# Altium schematic symbol library device.SchLib: 38 symbols
Pins are listed as number, name and electrical type; pins without a type are passive.

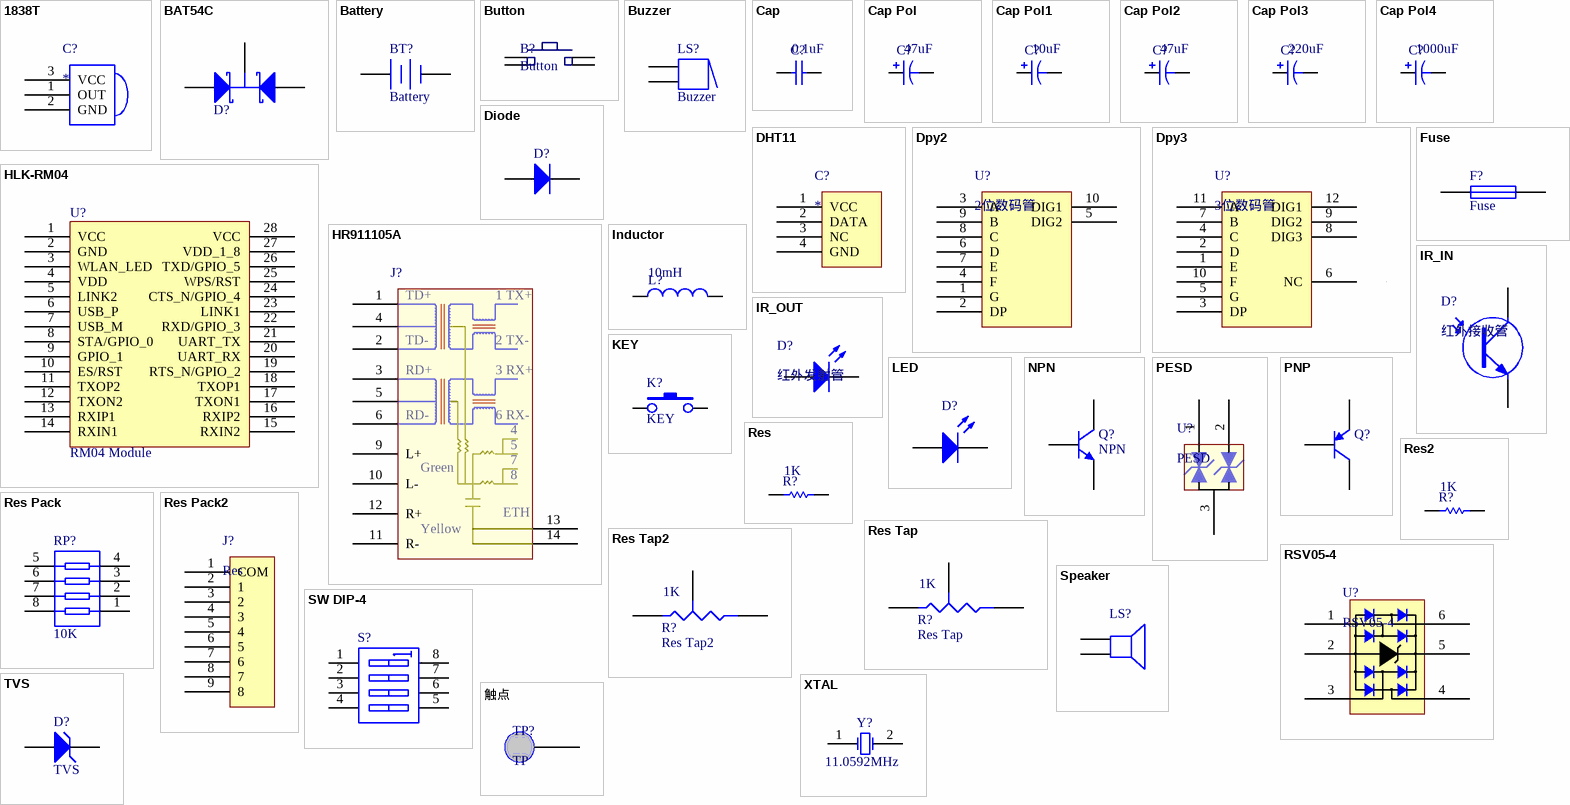
[diagram p0: symbols 1838T to 触点]

## 1838T
designator C?
footprint XH254-3
footprint TSOP1838
pins: 1 OUT, 2 GND, 3 VCC

## BAT54C
designator D?
Schottky Barrier Double Diode; Published: 17-Sep-2003; LatestRevisionDate: 12-Dec-2006; LatestRevisionNote: IPC-7351 Footprint Added.; DatasheetVersion: 4-Mar-2002; PackageVersion: May-1999; PackageReference: SOT23; Publisher: Altium Limited; PackageDescription: 3-Pin SOT-23 Package 0.95 mm Pitch, 2.3 mm Lead Span; ComponentLink1Description: Manufacturer Link; ComponentLink1URL: http://www.semiconductors.philips.com/; ComponentLink2Description: Datasheet; ComponentLink2URL: http://www.semiconductors.philips.com/acrobat/datasheets/BAT54_SERIES_4.pdf
simulation model BAT54C (SUBCKT)
signal-integrity model BAT54C
footprint SOT23-3M (SOT23, 3-Leads, Body 2.9x1.3mm, Pitch 0.95mm, Lead Span 2.5mm, IPC Low Density)
pins: 1 A1, 2 A2, 3 K

## Battery
designator BT?
Multicell Battery; Published: 24-Mar-1999; LatestRevisionDate: 17-Jul-2002; LatestRevisionNote: Re-released for DXP Platform.; PackageReference: BAT-2; Publisher: Altium Limited; PackageDescription: Battery; 2 Leads
footprint CR1220
pins: 1 +, 2 -

## Button
designator B?
footprint AN66
footprint AN1212
pins: 1, 2, 3, 4

## Buzzer
designator LS?
Magnetic Transducer Buzzer; Published: 24-Mar-1999; LatestRevisionDate: 17-Dec-2003; LatestRevisionNote: Schematic revised, PCB Footprint replaced.; DatasheetVersion: 17-Dec-2003; PackageReference: ABSM-1574; Publisher: Altium Limited; PackageDescription: Magnetic Transducer Buzzer; ComponentLink1Description: Manufacturer Link; ComponentLink1URL: http://www.megastar.com/linecard/buzzmode/index.php
footprint BELL
pins: 1, 2
1 alternate drawing of the same symbol

## Cap
designator C?, comment 0.1uF
Capacitor; Published: 8-Jun-2000; LatestRevisionDate: 17-Jul-2002; LatestRevisionNote: Re-released for DXP Platform.; PackageReference: RAD-0.3; Publisher: Altium Limited; PackageDescription: Radial Cap, Thru-Hole; 2 Leads; 0.3 in Pin Spacing; Value: 0.1uF
footprint CAPC2012M (Chip Capacitor, Body 2.0x1.3mm, IPC Low Density)
pins: 1, 2

## Cap Pol
designator C?, comment 47uF
Polarized Capacitor; Published: 8-Jun-2000; LatestRevisionDate: 17-Jul-2002; LatestRevisionNote: Re-released for DXP Platform.; Publisher: Altium Limited; PackageDescription: Polarized Capacitor; 2 Leads; Value: 47uF
footprint CAPC3216M (Chip Capacitor, Body 3.2x1.6mm, IPC Low Density)
pins: 1, 2
1 alternate drawing of the same symbol

## Cap Pol1
designator C?, comment 10uF
Polarized Capacitor (10uf); Published: 8-Jun-2000; LatestRevisionDate: 17-Jul-2002; LatestRevisionNote: Re-released for DXP Platform.; Publisher: Altium Limited; PackageDescription: Polarized Capacitor; 2 Leads; Value: 10uF
footprint CAPPR1.5-4x7 (Capacitor, Electrolytic, Radial; Body 4 x 7 mm (Dia.xH typ); Pin Spacing 1.5 mm (typ))
pins: 1, 2
1 alternate drawing of the same symbol

## Cap Pol2
designator C?, comment 47uF
Polarized Capacitor (22uf-47uf); Published: 8-Jun-2000; LatestRevisionDate: 17-Jul-2002; LatestRevisionNote: Re-released for DXP Platform.; Publisher: Altium Limited; PackageDescription: Polarized Capacitor; 2 Leads; Value: 47uF
footprint CAPPR2-5x11.5 (Capacitor, Electrolytic, Radial; Body 5 x 11.5 mm (Dia.xH typ); Pin Spacing 2 mm (typ))
pins: 1, 2
1 alternate drawing of the same symbol

## Cap Pol3
designator C?, comment 220uF
Polarized Capacitor (220uf); Published: 8-Jun-2000; LatestRevisionDate: 17-Jul-2002; LatestRevisionNote: Re-released for DXP Platform.; Publisher: Altium Limited; PackageDescription: Polarized Capacitor; 2 Leads; Value: 220uF
footprint CAPPR2.5-6.3x11.5 (Capacitor, Electrolytic, Radial; Body 6.3 x 11.5 mm (Dia.xH typ); Pin Spacing 2.5 mm (typ))
footprint CAP8.4x10
footprint CAP10.4x10.4 (CAP)
pins: 1, 2
1 alternate drawing of the same symbol

## Cap Pol4
designator C?, comment 1000uF
Polarized Capacitor (1000uf); Published: 8-Jun-2000; LatestRevisionDate: 17-Jul-2002; LatestRevisionNote: Re-released for DXP Platform.; Publisher: Altium Limited; PackageDescription: Polarized Capacitor; 2 Leads; Value: 1000uF
footprint CAPPR5-10x12.5 (Capacitor, Electrolytic, Radial; Body 10 x 12.5 mm (Dia.xH typ); Pin Spacing 5 mm (typ))
pins: 1, 2
1 alternate drawing of the same symbol

## DHT11
designator C?
footprint XH254-4
pins: 1 VCC, 2 DATA, 3 NC, 4 GND

## Diode
designator D?, comment 1N4007  (value not drawn)
Default Diode; Published: 8-Jun-2000; LatestRevisionDate: 17-Jul-2002; LatestRevisionNote: Re-released for DXP Platform.; PackageVersion: Sep-1996; PackageReference: SMC; Publisher: Altium Limited; PackageDescription: DO-214-AB/SMC; 2 C-Bend Leads; Body 7.9 x 5.9 mm, inc. leads (LxW); Code_JEDEC: DO-214-AB; Value: 1N4007
footprint DSO-C2/X1.8 (DO-214-AC/SMA; 2 C-Bend Leads; Body 5 x 2.7 mm, inc. leads (LxW))
footprint SOD123 (SOD-123; 2 Leads; Body 2.7 x 1.6 mm, (LxW))
pins: 1 A, 2 K

## Dpy2
designator U?, comment 2位数码管
footprint DPY0.36-2 (0.36寸2位数码管)
pins: 1 G, 2 DP, 3 A, 4 F, 5 DIG2, 6 D, 7 E, 8 C, 9 B, 10 DIG1

## Dpy3
designator U?, comment 3位数码管
footprint DPY0.56-3
pins: 1 E, 2 D, 3 DP, 4 C, 5 G, 6 NC, 7 B, 8 DIG3, 9 DIG2, 10 F, 11 A, 12 DIG1

## Fuse
designator F?
Published: 8-Jun-2000; LatestRevisionDate: 17-Jul-2002; LatestRevisionNote: Re-released for DXP Platform.; PackageReference: PIN-W2/E2.8; Publisher: Altium Limited; PackageDescription: Thru-Hole; 2 Leads
footprint RESC4532M (Chip Resistor, Body 4.5x3.2mm, IPC Low Density)
footprint RESC2012M (Chip Resistor, Body 2.0x1.3mm, IPC Low Density)
footprint SR075
pins: 1, 2

## HLK-RM04
designator U?, comment RM04 Module
footprint RM04
pins: 1 VCC, 2 GND, 3 WLAN_LED, 4 VDD, 5 LINK2, 6 USB_P, 7 USB_M, 8 STA/GPIO_0, 9 GPIO_1, 10 ES/RST, 11 TXOP2, 12 TXON2, 13 RXIP1, 14 RXIN1, 15 RXIN2, 16 RXIP2, 17 TXON1, 18 TXOP1, 19 RTS_N/GPIO_2, 20 UART_RX, 21 UART_TX, 22 RXD/GPIO_3, 23 LINK1, 24 CTS_N/GPIO_4, 25 WPS/RST, 26 TXD/GPIO_5, 27 VDD_1_8, 28 VCC
2 alternate drawings of the same symbol

## HR911105A
designator J?  (value not drawn)
footprint HR911105A
pins: 1, 2, 3, 4, 5, 6, 9 L+, 10 L-, 11 R-, 12 R+, 13, 14
text: TD+; 1 TX+; TD-; 2 TX-; RD+; 3 RX+; RD-; 6 RX-; 7; Green; 8; ETH; Yellow

## Inductor
designator L?  value 10mH  (hidden comment: Inductor)
Code_IEC: 1005; Published: 8-Jun-2000; LatestRevisionDate: 29-May-2009; LatestRevisionNote: IPC-7351 Footprint Added.; PackageReference: 0402-A; Publisher: Altium Limited; PackageDescription: Chip Inductor; Code_JEITA: 0402
footprint INDC2012M (Chip Inductor, Body 2.0x1.2mm, IPC Low Density)
footprint Inductor12x12
pins: 1, 2

## IR_IN
designator D?, comment 红外接收管
footprint IR
footprint IR2
pins: 1 C, 2 E

## IR_OUT
designator D?, comment 红外发射管
footprint IR
pins: 1 A, 2 K

## KEY
designator K?
footprint KEY3*6
footprint 薄片按键
pins: 1, 2

## LED
designator D?  (value not drawn)
Typical INFRARED GaAs LED; Published: 8-Jun-2000; LatestRevisionDate: 08-Jul-2005; LatestRevisionNote: Mech Layer 1 removed.; PackageReference: LED-0; Publisher: Altium Limited; PackageDescription: LED; 2 Leads
footprint LED2012M (Chip LED, Body 2.0x1.3mm, IPC Low Density)
footprint LED
pins: 1 A, 2 K

## NPN
designator Q?
NPN Bipolar Transistor; Published: 8-Jun-2000; LatestRevisionDate: 17-Jul-2002; LatestRevisionNote: Re-released for DXP Platform.; PackageReference: TO-226-AA; Publisher: Altium Limited; PackageDescription: TO, Flat Index; 3 In-Line, Axial Leads; Body Dia. 4.8mm; Leads 0.55 x 0.51 mm (max); Code_JEDEC: TO-226-AA
footprint SOT23-3M (SOT23, 3-Leads, Body 2.9x1.3mm, Pitch 0.95mm, Lead Span 2.5mm, IPC Low Density)
pins: 1 B, 2 E, 3 C

## PESD
designator U?
ESD瞬态保护
footprint SOT23-3M (SOT23, 3-Leads, Body 2.9x1.3mm, Pitch 0.95mm, Lead Span 2.5mm, IPC Low Density)
pins: 1, 2, 3

## PNP
designator Q?
PNP Bipolar Transistor; Published: 8-Jun-2000; LatestRevisionDate: 29-May-2009; LatestRevisionNote: IPC-7351 Footprint Added.; PackageVersion: Aug-1999; PackageReference: SOT-23B; Publisher: Altium Limited; PackageDescription: 3-Pin SOT-23 Package 0.95 mm Pitch, 2.4 mm Lead Span
footprint SOT23-3M (SOT23, 3-Leads, Body 2.9x1.3mm, Pitch 0.95mm, Lead Span 2.5mm, IPC Low Density)
pins: 1 B, 2 E, 3 C

## Res
designator R?, comment 1K
Resistor; Published: 8-Jun-2000; LatestRevisionDate: 17-Jul-2002; LatestRevisionNote: Re-released for DXP Platform.; PackageReference: AXIAL-0.3; Publisher: Altium Limited; PackageDescription: Axial Device, Thru-Hole; 2 Leads; 0.3 in Pin Spacing; Value: 1K
footprint RESC2012M (Chip Resistor, Body 2.0x1.3mm, IPC Low Density)
pins: 1, 2

## Res2
designator R?, comment 1K
Resistor; Published: 8-Jun-2000; LatestRevisionDate: 17-Jul-2002; LatestRevisionNote: Re-released for DXP Platform.; PackageReference: AXIAL-0.3; Publisher: Altium Limited; PackageDescription: Axial Device, Thru-Hole; 2 Leads; 0.3 in Pin Spacing; Value: 1K
footprint RES10.55-7X2.8 (Resistor, Axial; Body 7 x 2.8 mm (LxDia. max), Lead Dia. 0.65 mm (max))
pins: 1, 2

## Res Pack
designator RP?, comment 10K
Value: 10K
footprint EXB38V (Chip Resistor Array, (0603x4); SM; 8 Leads; Body 3.40 x 1.75 mm (LxW max))
pins: 1, 2, 3, 4, 5, 6, 7, 8

## Res Pack2
designator J?, comment Res
footprint SIP9
pins: 1 COM, 2 1, 3 2, 4 3, 5 4, 6 5, 7 6, 8 7, 9 8

## Res Tap
designator R?  value 1K
Tapped Resistor; Sim Note: Enter the Resistance value and the set point into parameter fields.; Set Position: 0.5; Published: 24-Mar-1999; LatestRevisionDate: 17-Jul-2002; LatestRevisionNote: Re-released for DXP Platform.; PackageReference: VR3; Publisher: Altium Limited; PackageDescription: Variable Resistor, Thru-Hole; 3 Leads
footprint VR3296
pins: 1 A, 2 B, 3 TAP

## Res Tap2
designator R?  value 1K
Tapped Resistor; Sim Note: Enter the Resistance value and the set point into parameter fields.; Set Position: 0.5; Published: 24-Mar-1999; LatestRevisionDate: 17-Jul-2002; LatestRevisionNote: Re-released for DXP Platform.; PackageReference: VR3; Publisher: Altium Limited; PackageDescription: Variable Resistor, Thru-Hole; 3 Leads
footprint 3362P
pins: 1 A, 2 TAP, 3 B

## RSV05-4
designator U?
USB OR  Ethernet ESD
footprint SOT26A-6M
pins: 1, 2, 3, 4, 5, 6

## Speaker
designator LS?
Loudspeaker; Published: 24-Mar-1999; LatestRevisionDate: 17-Jul-2002; LatestRevisionNote: Re-released for DXP Platform.; PackageReference: PIN2; Publisher: Altium Limited
pins: 1, 2

## SW DIP-4
designator S?  (value not drawn)
DIP Switch, 4 Position, SPST; Published: 24-Mar-1999; LatestRevisionDate: 29-May-2009; LatestRevisionNote: IPC-7351 Footprint Added.; PackageVersion: Dec-2002; PackageReference: SO8; Publisher: Altium Limited; PackageDescription: 8-Pin Small Outline Integrated Circuit 1.27 mm Pitch; Code_JEDEC: MS-012-AA; Code_IPC: SOIC127P600-8
footprint SWITCH-8 (DIP; 8 Leads; Row Spacing 7.62 mm; Pitch 2.54 mm)
pins: 1 A1, 2 A2, 3 A3, 4 A4, 5 B4, 6 B3, 7 B2, 8 B1

## TVS
designator D?
TVS瞬态抑制二极管; Published: 8-Jun-2000; LatestRevisionDate: 17-Jul-2002; LatestRevisionNote: Re-released for DXP Platform.; PackageReference: DIODE-0.7; Publisher: Altium Limited; PackageDescription: Diode, Thru-Hole; 2 Leads; 0.7 in Pin Spacing
footprint DSO-C2/X1.8 (DO-214-AC/SMA; 2 C-Bend Leads; Body 5 x 2.7 mm, inc. leads (LxW))
pins: 1 A, 2 K

## XTAL
designator Y?  value 11.0592MHz  (hidden comment: XTAL)
Crystal Oscillator; Published: 8-Jun-2000; LatestRevisionDate: 17-Jul-2002; LatestRevisionNote: Re-released for DXP Platform.; PackageReference: R38; Publisher: Altium Limited; PackageDescription: Crystal, Thru-Hole; 2 Leads; Body 3.1 x 8.2 mm (Dia.xH)
footprint HC49_TH
footprint HC49_SMD
footprint XTAL-W2/D2.1 (Crystal, Thru-Hole; 2 Leads; Body 2.1 x 6.2 mm (Dia.xH))
footprint XTAL-W2/D3.1 (Crystal, Thru-Hole; 2 Leads; Body 3.1 x 8.2 mm (Dia.xH))
pins: 1 OSC1, 2 OSC2

## 触点
designator TP?, comment TP
footprint 触点
footprint 触点2
pins: 1 C (power)